# EAGLE library part AVRISP_ (library Chromation)
FCI 2x3 pin strip header, BergStik II Series. Pinout shown is for an AVRISP MKII programmer header.
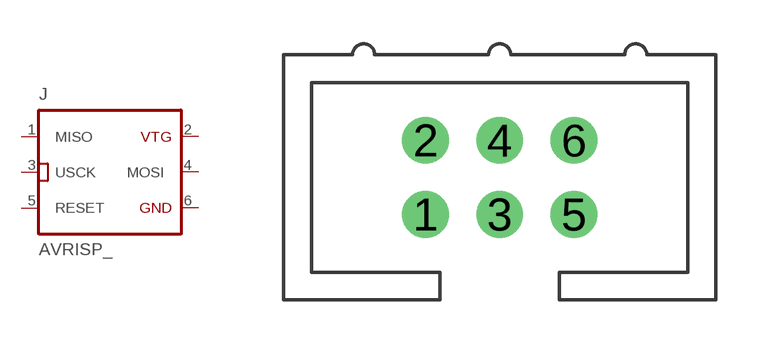
[diagram p12: symbol with the pads of HDR-6_2X3-SHROUDED_3M; footprint HDR-6_2X3-SHROUDED_3M]

Designator prefix J

## AVRISP_30306-6002HB  [HDR-6_2X3-SHROUDED_3M]
1  MISO
2  VTTL
3  USCK
4  MOSI
5  RESET
6  GND  pwr

## Footprint HDR-6_2X3-SHROUDED_3M (pad centres in mm)
drill 1.067: 1 -2.54,-1.27; 2 -2.54,1.27; 3 0,-1.27; 4 0,1.27; 5 2.54,-1.27; 6 2.54,1.27